# EAGLE library part RFID12 (library Componentes)
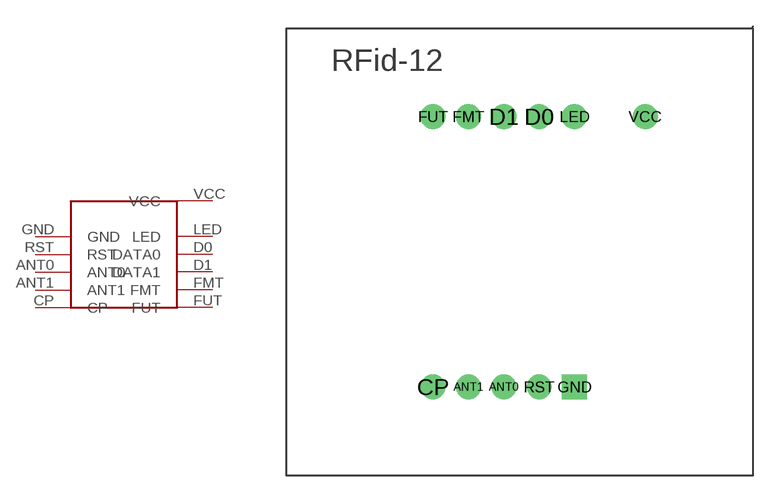
[diagram p0: symbol with the pads of RFID12; footprint RFID12]

Designator prefix -

## RFID12  [RFID12]
ANT0  ANT0
ANT1  ANT1
CP  CP
D0  DATA0
D1  DATA1
FMT  FMT
FUT  FUT
GND  GND
LED  LED
RST  RST
VCC  VCC

## Footprint RFID12 (pad centres in mm)
drill 0.9: ANT0 12.3,5; ANT1 10.3,5; CP 8.3,5; D0 14.3,20.3; D1 12.3,20.3; FMT 10.3,20.3; FUT 8.3,20.3; LED 16.3,20.3; RST 14.3,5; VCC 20.3,20.3
drill 0.9 square: GND 16.3,5